# Altium schematic symbol library EL-sense_Photoresistors.SchLib: 1 symbol
Pins are listed as number, name and electrical type; pins without a type are passive.

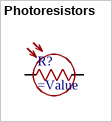
[diagram p0: symbol Photoresistors]

## Photoresistors
designator R?
pins: 1, 2